# EAGLE library part STEPSTICK (library FirePick)
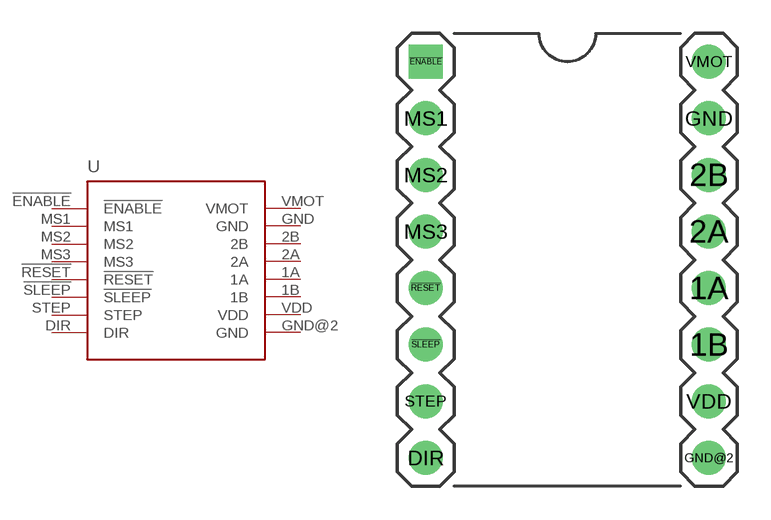
[diagram p8: symbol with the pads of STEPSTICK; footprint STEPSTICK]

Designator prefix U

## STEPSTICK  [STEPSTICK]
1A  1A
1B  1B
2A  2A
2B  2B
!ENABLE!  !ENABLE!
!RESET!  !RESET!
!SLEEP!  !SLEEP!
DIR  DIR
GND  GND
GND@2  GND
MS1  MS1
MS2  MS2
MS3  MS3
STEP  STEP
VDD  VDD
VMOT  VMOT

## Footprint STEPSTICK (pad centres in mm)
drill 1.016: 1A 6.35,-1.27; 1B 6.35,-3.81; 2A 6.35,1.27; 2B 6.35,3.81; !RESET! -6.35,-1.27; !SLEEP! -6.35,-3.81; DIR -6.35,-8.89; GND 6.35,6.35; GND@2 6.35,-8.89; MS1 -6.35,6.35; MS2 -6.35,3.81; MS3 -6.35,1.27; STEP -6.35,-6.35; VDD 6.35,-6.35; VMOT 6.35,8.89
drill 1.016 square: !ENABLE! -6.35,8.89